# Altium footprint library alchitry_elements.PCBLIB: 2 footprints
Each footprint in its own frame and in the unit in brackets; x right, y up, seen from the top. Pads: shape width x height; smd on the part's side, far side on the other; paste and mask are expansions set on the pad; w line width, h text height; cw(c..) or ccw(c..) is an arc to the next point about the centre after c.
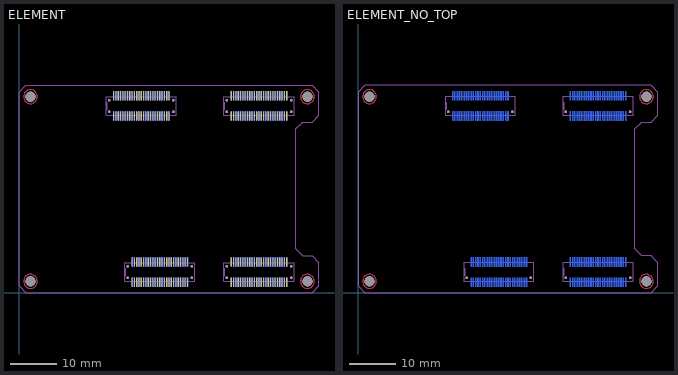
[diagram p0: the footprints below, top view; thin cyan lines are the x and y axes]

## ELEMENT [mm]
pads (420):
  rect 0.25x2 smd far side: AB_1(20.5,38.3) AB_2(21,38.3) AB_3(21.5,38.3) AB_4(22,38.3) AB_5(22.5,38.3) AB_6(23,38.3) AB_7(23.5,38.3) AB_8(24,38.3) AB_9(24.5,38.3) AB_10(25,38.3) AB_11(25.5,38.3) AB_12(26,38.3) AB_13(26.5,38.3) AB_14(27,38.3) AB_15(27.5,38.3) AB_16(28,38.3) AB_17(28.5,38.3) AB_18(29,38.3) AB_19(29.5,38.3) AB_20(30,38.3) AB_21(30.5,38.3) AB_22(31,38.3) AB_23(31.5,38.3) AB_24(32,38.3) AB_25(32.5,38.3) AB_26(32.5,42.7) AB_27(32,42.7) AB_28(31.5,42.7) AB_29(31,42.7) AB_30(30.5,42.7) AB_31(30,42.7) AB_32(29.5,42.7) AB_33(29,42.7) AB_34(28.5,42.7) AB_35(28,42.7) AB_36(27.5,42.7) AB_37(27,42.7) AB_38(26.5,42.7) AB_39(26,42.7) AB_40(25.5,42.7) AB_41(25,42.7) AB_42(24.5,42.7) AB_43(24,42.7) AB_44(23.5,42.7) AB_45(23,42.7) AB_46(22.5,42.7) AB_47(22,42.7) AB_48(21.5,42.7) AB_49(21,42.7) AB_50(20.5,42.7) BB_1(46,38.3) BB_2(46.5,38.3) BB_3(47,38.3) BB_4(47.5,38.3) BB_5(48,38.3) BB_6(48.5,38.3) BB_7(49,38.3) BB_8(49.5,38.3) BB_9(50,38.3) BB_10(50.5,38.3) BB_11(51,38.3) BB_12(51.5,38.3) BB_13(52,38.3) BB_14(52.5,38.3) BB_15(53,38.3) BB_16(53.5,38.3) BB_17(54,38.3) BB_18(54.5,38.3) BB_19(55,38.3) BB_20(55.5,38.3) BB_21(56,38.3) BB_22(56.5,38.3) BB_23(57,38.3) BB_24(57.5,38.3) BB_25(58,38.3) BB_26(58,42.7) BB_27(57.5,42.7) BB_28(57,42.7) BB_29(56.5,42.7) BB_30(56,42.7) BB_31(55.5,42.7) BB_32(55,42.7) BB_33(54.5,42.7) BB_34(54,42.7) BB_35(53.5,42.7) BB_36(53,42.7) BB_37(52.5,42.7) BB_38(52,42.7) BB_39(51.5,42.7) BB_40(51,42.7) BB_41(50.5,42.7) BB_42(50,42.7) BB_43(49.5,42.7) BB_44(49,42.7) BB_45(48.5,42.7) BB_46(48,42.7) BB_47(47.5,42.7) BB_48(47,42.7) BB_49(46.5,42.7) BB_50(46,42.7) CB_1(24.5,2.3) CB_2(25,2.3) CB_3(25.5,2.3) CB_4(26,2.3) CB_5(26.5,2.3) CB_6(27,2.3) CB_7(27.5,2.3) CB_8(28,2.3) CB_9(28.5,2.3) CB_10(29,2.3) CB_11(29.5,2.3) CB_12(30,2.3) CB_13(30.5,2.3) CB_14(31,2.3) CB_15(31.5,2.3) CB_16(32,2.3) CB_17(32.5,2.3) CB_18(33,2.3) CB_19(33.5,2.3) CB_20(34,2.3) CB_21(34.5,2.3) CB_22(35,2.3) CB_23(35.5,2.3) CB_24(36,2.3) CB_25(36.5,2.3) CB_26(36.5,6.7) CB_27(36,6.7) CB_28(35.5,6.7) CB_29(35,6.7) CB_30(34.5,6.7) CB_31(34,6.7) CB_32(33.5,6.7) CB_33(33,6.7) CB_34(32.5,6.7) CB_35(32,6.7) CB_36(31.5,6.7) CB_37(31,6.7) CB_38(30.5,6.7) CB_39(30,6.7) CB_40(29.5,6.7) CB_41(29,6.7) CB_42(28.5,6.7) CB_43(28,6.7) CB_44(27.5,6.7) CB_45(27,6.7) CB_46(26.5,6.7) CB_47(26,6.7) CB_48(25.5,6.7) CB_49(25,6.7) CB_50(24.5,6.7) DB_1(46,2.3) DB_2(46.5,2.3) DB_3(47,2.3) DB_4(47.5,2.3) DB_5(48,2.3) DB_6(48.5,2.3) DB_7(49,2.3) DB_8(49.5,2.3) DB_9(50,2.3) DB_10(50.5,2.3) DB_11(51,2.3) DB_12(51.5,2.3) DB_13(52,2.3) DB_14(52.5,2.3) DB_15(53,2.3) DB_16(53.5,2.3) DB_17(54,2.3) DB_18(54.5,2.3) DB_19(55,2.3) DB_20(55.5,2.3) DB_21(56,2.3) DB_22(56.5,2.3) DB_23(57,2.3) DB_24(57.5,2.3) DB_25(58,2.3) DB_26(58,6.7) DB_27(57.5,6.7) DB_28(57,6.7) DB_29(56.5,6.7) DB_30(56,6.7) DB_31(55.5,6.7) DB_32(55,6.7) DB_33(54.5,6.7) DB_34(54,6.7) DB_35(53.5,6.7) DB_36(53,6.7) DB_37(52.5,6.7) DB_38(52,6.7) DB_39(51.5,6.7) DB_40(51,6.7) DB_41(50.5,6.7) DB_42(50,6.7) DB_43(49.5,6.7) DB_44(49,6.7) DB_45(48.5,6.7) DB_46(48,6.7) DB_47(47.5,6.7) DB_48(47,6.7) DB_49(46.5,6.7) DB_50(46,6.7)
  rect 0.25x2 smd: AT_1(20.5,38.3) AT_2(21,38.3) AT_3(21.5,38.3) AT_4(22,38.3) AT_5(22.5,38.3) AT_6(23,38.3) AT_7(23.5,38.3) AT_8(24,38.3) AT_9(24.5,38.3) AT_10(25,38.3) AT_11(25.5,38.3) AT_12(26,38.3) AT_13(26.5,38.3) AT_14(27,38.3) AT_15(27.5,38.3) AT_16(28,38.3) AT_17(28.5,38.3) AT_18(29,38.3) AT_19(29.5,38.3) AT_20(30,38.3) AT_21(30.5,38.3) AT_22(31,38.3) AT_23(31.5,38.3) AT_24(32,38.3) AT_25(32.5,38.3) AT_26(32.5,42.7) AT_27(32,42.7) AT_28(31.5,42.7) AT_29(31,42.7) AT_30(30.5,42.7) AT_31(30,42.7) AT_32(29.5,42.7) AT_33(29,42.7) AT_34(28.5,42.7) AT_35(28,42.7) AT_36(27.5,42.7) AT_37(27,42.7) AT_38(26.5,42.7) AT_39(26,42.7) AT_40(25.5,42.7) AT_41(25,42.7) AT_42(24.5,42.7) AT_43(24,42.7) AT_44(23.5,42.7) AT_45(23,42.7) AT_46(22.5,42.7) AT_47(22,42.7) AT_48(21.5,42.7) AT_49(21,42.7) AT_50(20.5,42.7) BT_1(46,38.3) BT_2(46.5,38.3) BT_3(47,38.3) BT_4(47.5,38.3) BT_5(48,38.3) BT_6(48.5,38.3) BT_7(49,38.3) BT_8(49.5,38.3) BT_9(50,38.3) BT_10(50.5,38.3) BT_11(51,38.3) BT_12(51.5,38.3) BT_13(52,38.3) BT_14(52.5,38.3) BT_15(53,38.3) BT_16(53.5,38.3) BT_17(54,38.3) BT_18(54.5,38.3) BT_19(55,38.3) BT_20(55.5,38.3) BT_21(56,38.3) BT_22(56.5,38.3) BT_23(57,38.3) BT_24(57.5,38.3) BT_25(58,38.3) BT_26(58,42.7) BT_27(57.5,42.7) BT_28(57,42.7) BT_29(56.5,42.7) BT_30(56,42.7) BT_31(55.5,42.7) BT_32(55,42.7) BT_33(54.5,42.7) BT_34(54,42.7) BT_35(53.5,42.7) BT_36(53,42.7) BT_37(52.5,42.7) BT_38(52,42.7) BT_39(51.5,42.7) BT_40(51,42.7) BT_41(50.5,42.7) BT_42(50,42.7) BT_43(49.5,42.7) BT_44(49,42.7) BT_45(48.5,42.7) BT_46(48,42.7) BT_47(47.5,42.7) BT_48(47,42.7) BT_49(46.5,42.7) BT_50(46,42.7) CT_1(24.5,2.3) CT_2(25,2.3) CT_3(25.5,2.3) CT_4(26,2.3) CT_5(26.5,2.3) CT_6(27,2.3) CT_7(27.5,2.3) CT_8(28,2.3) CT_9(28.5,2.3) CT_10(29,2.3) CT_11(29.5,2.3) CT_12(30,2.3) CT_13(30.5,2.3) CT_14(31,2.3) CT_15(31.5,2.3) CT_16(32,2.3) CT_17(32.5,2.3) CT_18(33,2.3) CT_19(33.5,2.3) CT_20(34,2.3) CT_21(34.5,2.3) CT_22(35,2.3) CT_23(35.5,2.3) CT_24(36,2.3) CT_25(36.5,2.3) CT_26(36.5,6.7) CT_27(36,6.7) CT_28(35.5,6.7) CT_29(35,6.7) CT_30(34.5,6.7) CT_31(34,6.7) CT_32(33.5,6.7) CT_33(33,6.7) CT_34(32.5,6.7) CT_35(32,6.7) CT_36(31.5,6.7) CT_37(31,6.7) CT_38(30.5,6.7) CT_39(30,6.7) CT_40(29.5,6.7) CT_41(29,6.7) CT_42(28.5,6.7) CT_43(28,6.7) CT_44(27.5,6.7) CT_45(27,6.7) CT_46(26.5,6.7) CT_47(26,6.7) CT_48(25.5,6.7) CT_49(25,6.7) CT_50(24.5,6.7) DT_1(46,2.3) DT_2(46.5,2.3) DT_3(47,2.3) DT_4(47.5,2.3) DT_5(48,2.3) DT_6(48.5,2.3) DT_7(49,2.3) DT_8(49.5,2.3) DT_9(50,2.3) DT_10(50.5,2.3) DT_11(51,2.3) DT_12(51.5,2.3) DT_13(52,2.3) DT_14(52.5,2.3) DT_15(53,2.3) DT_16(53.5,2.3) DT_17(54,2.3) DT_18(54.5,2.3) DT_19(55,2.3) DT_20(55.5,2.3) DT_21(56,2.3) DT_22(56.5,2.3) DT_23(57,2.3) DT_24(57.5,2.3) DT_25(58,2.3) DT_26(58,6.7) DT_27(57.5,6.7) DT_28(57,6.7) DT_29(56.5,6.7) DT_30(56,6.7) DT_31(55.5,6.7) DT_32(55,6.7) DT_33(54.5,6.7) DT_34(54,6.7) DT_35(53.5,6.7) DT_36(53,6.7) DT_37(52.5,6.7) DT_38(52,6.7) DT_39(51.5,6.7) DT_40(51,6.7) DT_41(50.5,6.7) DT_42(50,6.7) DT_43(49.5,6.7) DT_44(49,6.7) DT_45(48.5,6.7) DT_46(48,6.7) DT_47(47.5,6.7) DT_48(47,6.7) DT_49(46.5,6.7) DT_50(46,6.7)
  round 2.2 hole 2.2 unplated: MH1(2.5,2.5) MH2(2.5,42.5) MH3(62.5,42.5) MH4(62.5,2.5)
  round 0.55 hole 0.55 unplated: MH5(58.95,39.25) MH6(45.05,39.25) MH7(33.45,39.25) MH8(19.55,39.25) MH9(58.95,3.25) MH10(45.05,3.25) MH11(37.45,3.25) MH12(23.55,3.25) MH13(58.95,5.75) MH14(45.05,5.75) MH15(37.45,5.75) MH16(23.55,5.75) MH17(58.95,41.75) MH18(45.05,41.75) MH19(33.45,41.75) MH20(19.55,41.75)
Top:
  circle w0.254: c62.5,2.5 r1.5
  circle w0.254: c62.5,42.5 r1.5
  circle w0.254: c2.5,42.5 r1.5
  circle w0.254: c2.5,2.5 r1.5
Bottom:
  circle w0.254: c2.5,2.5 r1.5
  circle w0.254: c2.5,42.5 r1.5
  circle w0.254: c62.5,42.5 r1.5
  circle w0.254: c62.5,2.5 r1.5
Top Solder:
  circle w0.254: c2.5,42.5 r1.5
  circle w0.254: c62.5,42.5 r1.5
  circle w0.254: c62.5,2.5 r1.5
  circle w0.254: c2.5,2.5 r1.5
Bottom Solder:
  circle w0.254: c2.5,42.5 r1.5
  circle w0.254: c62.5,42.5 r1.5
  circle w0.254: c62.5,2.5 r1.5
  circle w0.254: c2.5,2.5 r1.5
Dimension:
  lines w0: 0,1.5 1.5,0 63.5,0 65,1.5 65,6.5 63.5,8 61.5,8 60,9.5 60,34.5 60,35.5 61.5,37 63.5,37 65,38.5 65,43.5 63.5,45 1.5,45 0,43.5 0,1.5
tPlace:
  lines w0.127: 18.9,39.7 18.9,38.5 34.1,38.5 34.1,42.5 18.9,42.5 18.9,41.3 ; 18.9,39.7 18.9,41.3 ; 18.9,39.7 19.1,39.7 19.1,41.3 18.9,41.3 ; 22.9,3.7 22.9,2.5 38.1,2.5 38.1,6.5 22.9,6.5 22.9,5.3 ; 22.9,3.7 22.9,5.3 ; 22.9,3.7 23.1,3.7 23.1,5.3 22.9,5.3 ; 44.4,3.7 44.4,2.5 59.6,2.5 59.6,6.5 44.4,6.5 44.4,5.3 ; 44.4,3.7 44.4,5.3 ; 44.4,3.7 44.6,3.7 44.6,5.3 44.4,5.3 ; 44.4,39.7 44.4,38.5 59.6,38.5 59.6,42.5 44.4,42.5 44.4,41.3 ; 44.4,39.7 44.4,41.3 ; 44.4,39.7 44.6,39.7 44.6,41.3 44.4,41.3
bPlace:
  lines w0.127: 18.9,39.7 18.9,41.3 ; 18.9,39.7 18.9,38.5 34.1,38.5 34.1,42.5 18.9,42.5 18.9,41.3 ; 18.9,39.7 19.1,39.7 19.1,41.3 18.9,41.3 ; 22.9,3.7 22.9,5.3 ; 22.9,3.7 22.9,2.5 38.1,2.5 38.1,6.5 22.9,6.5 22.9,5.3 ; 22.9,3.7 23.1,3.7 23.1,5.3 22.9,5.3 ; 44.4,3.7 44.4,5.3 ; 44.4,3.7 44.4,2.5 59.6,2.5 59.6,6.5 44.4,6.5 44.4,5.3 ; 44.4,3.7 44.6,3.7 44.6,5.3 44.4,5.3 ; 44.4,39.7 44.4,41.3 ; 44.4,39.7 44.4,38.5 59.6,38.5 59.6,42.5 44.4,42.5 44.4,41.3 ; 44.4,39.7 44.6,39.7 44.6,41.3 44.4,41.3
3D body "Alchitry_Au_1688912125.214.step": height 4.5, standoff -3.97, extent 0,0 65,45

## ELEMENT_NO_TOP [mm]
pads (212):
  rect 0.25x2 smd far side: AB_1(20.5,38.3) AB_2(21,38.3) AB_3(21.5,38.3) AB_4(22,38.3) AB_5(22.5,38.3) AB_6(23,38.3) AB_7(23.5,38.3) AB_8(24,38.3) AB_9(24.5,38.3) AB_10(25,38.3) AB_11(25.5,38.3) AB_12(26,38.3) AB_13(26.5,38.3) AB_14(27,38.3) AB_15(27.5,38.3) AB_16(28,38.3) AB_17(28.5,38.3) AB_18(29,38.3) AB_19(29.5,38.3) AB_20(30,38.3) AB_21(30.5,38.3) AB_22(31,38.3) AB_23(31.5,38.3) AB_24(32,38.3) AB_25(32.5,38.3) AB_26(32.5,42.7) AB_27(32,42.7) AB_28(31.5,42.7) AB_29(31,42.7) AB_30(30.5,42.7) AB_31(30,42.7) AB_32(29.5,42.7) AB_33(29,42.7) AB_34(28.5,42.7) AB_35(28,42.7) AB_36(27.5,42.7) AB_37(27,42.7) AB_38(26.5,42.7) AB_39(26,42.7) AB_40(25.5,42.7) AB_41(25,42.7) AB_42(24.5,42.7) AB_43(24,42.7) AB_44(23.5,42.7) AB_45(23,42.7) AB_46(22.5,42.7) AB_47(22,42.7) AB_48(21.5,42.7) AB_49(21,42.7) AB_50(20.5,42.7) BB_1(46,38.3) BB_2(46.5,38.3) BB_3(47,38.3) BB_4(47.5,38.3) BB_5(48,38.3) BB_6(48.5,38.3) BB_7(49,38.3) BB_8(49.5,38.3) BB_9(50,38.3) BB_10(50.5,38.3) BB_11(51,38.3) BB_12(51.5,38.3) BB_13(52,38.3) BB_14(52.5,38.3) BB_15(53,38.3) BB_16(53.5,38.3) BB_17(54,38.3) BB_18(54.5,38.3) BB_19(55,38.3) BB_20(55.5,38.3) BB_21(56,38.3) BB_22(56.5,38.3) BB_23(57,38.3) BB_24(57.5,38.3) BB_25(58,38.3) BB_26(58,42.7) BB_27(57.5,42.7) BB_28(57,42.7) BB_29(56.5,42.7) BB_30(56,42.7) BB_31(55.5,42.7) BB_32(55,42.7) BB_33(54.5,42.7) BB_34(54,42.7) BB_35(53.5,42.7) BB_36(53,42.7) BB_37(52.5,42.7) BB_38(52,42.7) BB_39(51.5,42.7) BB_40(51,42.7) BB_41(50.5,42.7) BB_42(50,42.7) BB_43(49.5,42.7) BB_44(49,42.7) BB_45(48.5,42.7) BB_46(48,42.7) BB_47(47.5,42.7) BB_48(47,42.7) BB_49(46.5,42.7) BB_50(46,42.7) CB_1(24.5,2.3) CB_2(25,2.3) CB_3(25.5,2.3) CB_4(26,2.3) CB_5(26.5,2.3) CB_6(27,2.3) CB_7(27.5,2.3) CB_8(28,2.3) CB_9(28.5,2.3) CB_10(29,2.3) CB_11(29.5,2.3) CB_12(30,2.3) CB_13(30.5,2.3) CB_14(31,2.3) CB_15(31.5,2.3) CB_16(32,2.3) CB_17(32.5,2.3) CB_18(33,2.3) CB_19(33.5,2.3) CB_20(34,2.3) CB_21(34.5,2.3) CB_22(35,2.3) CB_23(35.5,2.3) CB_24(36,2.3) CB_25(36.5,2.3) CB_26(36.5,6.7) CB_27(36,6.7) CB_28(35.5,6.7) CB_29(35,6.7) CB_30(34.5,6.7) CB_31(34,6.7) CB_32(33.5,6.7) CB_33(33,6.7) CB_34(32.5,6.7) CB_35(32,6.7) CB_36(31.5,6.7) CB_37(31,6.7) CB_38(30.5,6.7) CB_39(30,6.7) CB_40(29.5,6.7) CB_41(29,6.7) CB_42(28.5,6.7) CB_43(28,6.7) CB_44(27.5,6.7) CB_45(27,6.7) CB_46(26.5,6.7) CB_47(26,6.7) CB_48(25.5,6.7) CB_49(25,6.7) CB_50(24.5,6.7) DB_1(46,2.3) DB_2(46.5,2.3) DB_3(47,2.3) DB_4(47.5,2.3) DB_5(48,2.3) DB_6(48.5,2.3) DB_7(49,2.3) DB_8(49.5,2.3) DB_9(50,2.3) DB_10(50.5,2.3) DB_11(51,2.3) DB_12(51.5,2.3) DB_13(52,2.3) DB_14(52.5,2.3) DB_15(53,2.3) DB_16(53.5,2.3) DB_17(54,2.3) DB_18(54.5,2.3) DB_19(55,2.3) DB_20(55.5,2.3) DB_21(56,2.3) DB_22(56.5,2.3) DB_23(57,2.3) DB_24(57.5,2.3) DB_25(58,2.3) DB_26(58,6.7) DB_27(57.5,6.7) DB_28(57,6.7) DB_29(56.5,6.7) DB_30(56,6.7) DB_31(55.5,6.7) DB_32(55,6.7) DB_33(54.5,6.7) DB_34(54,6.7) DB_35(53.5,6.7) DB_36(53,6.7) DB_37(52.5,6.7) DB_38(52,6.7) DB_39(51.5,6.7) DB_40(51,6.7) DB_41(50.5,6.7) DB_42(50,6.7) DB_43(49.5,6.7) DB_44(49,6.7) DB_45(48.5,6.7) DB_46(48,6.7) DB_47(47.5,6.7) DB_48(47,6.7) DB_49(46.5,6.7) DB_50(46,6.7)
  round 2.2 hole 2.2 unplated: MH1(2.5,2.5) MH2(2.5,42.5) MH3(62.5,42.5) MH4(62.5,2.5)
  round 0.55 hole 0.55 unplated: MH5(58.95,39.25) MH6(45.05,39.25) MH7(33.45,39.25) MH8(19.55,39.25) MH9(58.95,3.25) MH10(45.05,3.25) MH11(37.45,3.25) MH12(23.55,3.25)
Top:
  circle w0.254: c62.5,2.5 r1.5
  circle w0.254: c62.5,42.5 r1.5
  circle w0.254: c2.5,42.5 r1.5
  circle w0.254: c2.5,2.5 r1.5
Bottom:
  circle w0.254: c2.5,2.5 r1.5
  circle w0.254: c2.5,42.5 r1.5
  circle w0.254: c62.5,42.5 r1.5
  circle w0.254: c62.5,2.5 r1.5
Top Solder:
  circle w0.254: c2.5,42.5 r1.5
  circle w0.254: c2.5,2.5 r1.5
  circle w0.254: c62.5,2.5 r1.5
  circle w0.254: c62.5,42.5 r1.5
Bottom Solder:
  circle w0.254: c2.5,42.5 r1.5
  circle w0.254: c2.5,2.5 r1.5
  circle w0.254: c62.5,2.5 r1.5
  circle w0.254: c62.5,42.5 r1.5
Dimension:
  lines w0: 0,1.5 1.5,0 63.5,0 65,1.5 65,6.5 63.5,8 61.5,8 60,9.5 60,34.5 60,35.5 61.5,37 63.5,37 65,38.5 65,43.5 63.5,45 1.5,45 0,43.5 0,1.5
bPlace:
  lines w0.127: 18.9,39.7 18.9,41.3 ; 18.9,39.7 18.9,38.5 34.1,38.5 34.1,42.5 18.9,42.5 18.9,41.3 ; 18.9,39.7 19.1,39.7 19.1,41.3 18.9,41.3 ; 22.9,3.7 22.9,5.3 ; 22.9,3.7 22.9,2.5 38.1,2.5 38.1,6.5 22.9,6.5 22.9,5.3 ; 22.9,3.7 23.1,3.7 23.1,5.3 22.9,5.3 ; 44.4,3.7 44.4,5.3 ; 44.4,3.7 44.4,2.5 59.6,2.5 59.6,6.5 44.4,6.5 44.4,5.3 ; 44.4,3.7 44.6,3.7 44.6,5.3 44.4,5.3 ; 44.4,39.7 44.4,41.3 ; 44.4,39.7 44.4,38.5 59.6,38.5 59.6,42.5 44.4,42.5 44.4,41.3 ; 44.4,39.7 44.6,39.7 44.6,41.3 44.4,41.3